# Altium schematic symbol library VARISTOR.Schlib: 1 symbol
Pins are listed as number, name and electrical type; pins without a type are passive.

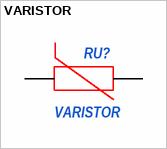
[diagram p0: symbol VARISTOR]

## VARISTOR
designator RU?
ManufacturerPartNumber: *
footprint VARISTOR D=14mm
pins: 1, 2